# EAGLE library part MS10105 (library ms10105)
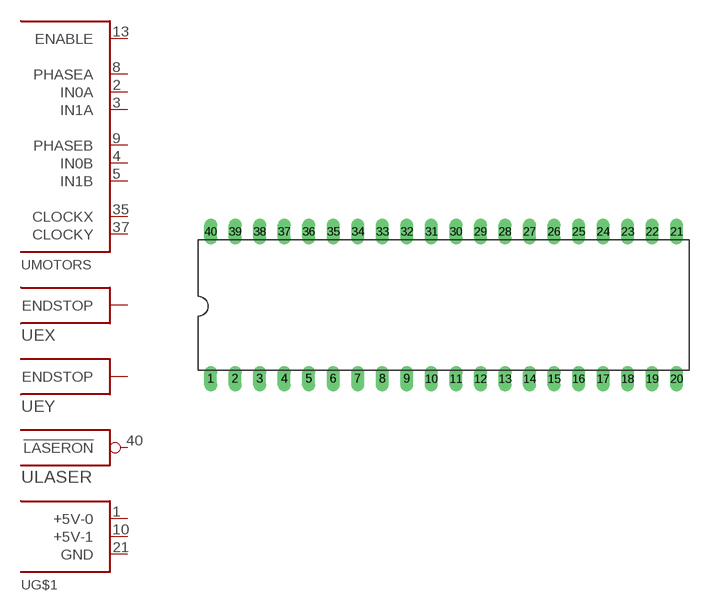
[diagram p0: symbol with the pads of DIL40; footprint DIL40]

Designator prefix -; gates EX=MS10105-ENDSTOP EY=MS10105-ENDSTOP MOTORS=MS10105-MOTOR LASER=MS10105-LASER G$1=MS10105-POWER

## MS10105  [DIL40]
1  G$1:+5V-0  pwr
2  MOTORS:IN0A  in
3  MOTORS:IN1A  in
4  MOTORS:IN0B  in
5  MOTORS:IN1B  in
8  MOTORS:PHASEA  in
9  MOTORS:PHASEB  in
10  G$1:+5V-1  pwr
13  MOTORS:ENABLE  in
21  G$1:GND  pwr
35  MOTORS:CLOCKX  in
37  MOTORS:CLOCKY  in
38  EX:ENDSTOP  out
39  EY:ENDSTOP  out
40  LASER:!LASERON  in

## Footprint DIL40 (pad centres in mm)
DIL socket for interfacing to MS10105
drill 0.813 long: 1 -24.13,-7.62; 2 -21.59,-7.62; 3 -19.05,-7.62; 4 -16.51,-7.62; 5 -13.97,-7.62; 6 -11.43,-7.62; 7 -8.89,-7.62; 8 -6.35,-7.62; 9 -3.81,-7.62; 10 -1.27,-7.62; 11 1.27,-7.62; 12 3.81,-7.62; 13 6.35,-7.62; 14 8.89,-7.62; 15 11.43,-7.62; 16 13.97,-7.62; 17 16.51,-7.62; 18 19.05,-7.62; 19 21.59,-7.62; 20 24.13,-7.62; 21 24.13,7.62; 22 21.59,7.62; 23 19.05,7.62; 24 16.51,7.62; 25 13.97,7.62; 26 11.43,7.62; 27 8.89,7.62; 28 6.35,7.62; 29 3.81,7.62; 30 1.27,7.62; 31 -1.27,7.62; 32 -3.81,7.62; 33 -6.35,7.62; 34 -8.89,7.62; 35 -11.43,7.62; 36 -13.97,7.62; 37 -16.51,7.62; 38 -19.05,7.62; 39 -21.59,7.62; 40 -24.13,7.62